# EAGLE library part TEXAS_INA240 (library RVschwarzenegger_Controller_RevA)
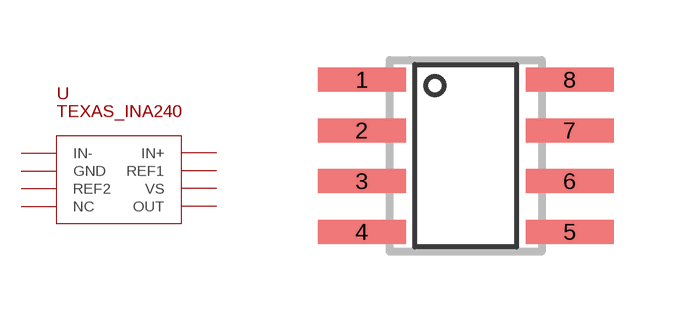
[diagram p7: symbol with the pads of TEXAS_INA240; footprint TEXAS_INA240]

Designator prefix U

## TEXAS_INA240  [TEXAS_INA240]
1  IN-
2  GND
3  REF2
4  NC
5  OUT
6  VS
7  REF1
8  IN+

## Footprint TEXAS_INA240 (pad centres in mm)
smd 2.2 x 0.6: 1 -1.33,4.445; 2 -1.33,3.175; 3 -1.33,1.905; 4 -1.33,0.635; 5 3.87,0.635; 6 3.87,1.905; 7 3.87,3.175; 8 3.87,4.445